# Altium integrated library Renesas Microprocessor SuperH.IntLib: 433 symbols (part 7 of 62)
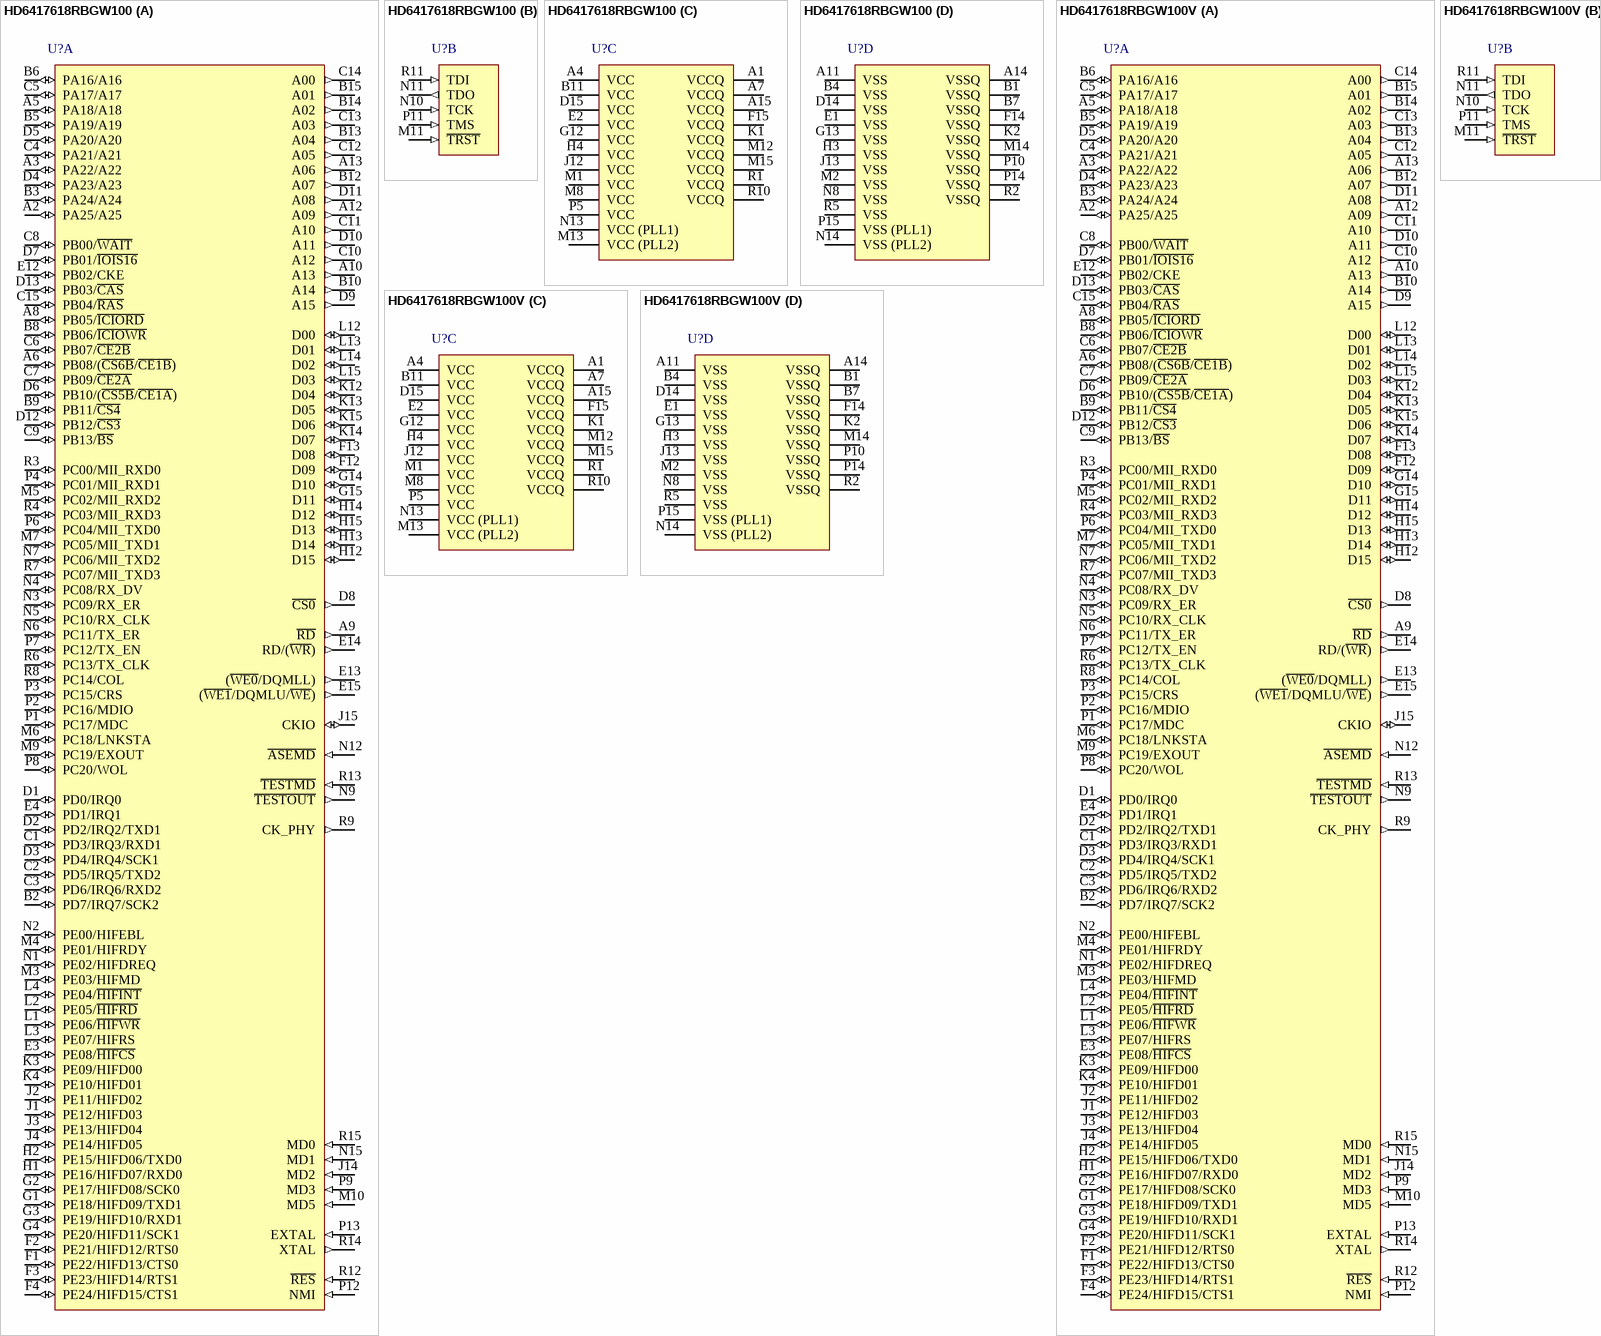
[diagram p382: symbols HD6417618RBGW100 to HD6417618RBGW100V]

## HD6417618RBGW100
designator U?
32-Bit RISC Microcomputer, SH-Ether Series, SH-2 core, 100MHz, 4K RAM, PLBG0176GA-A (BP-176) Package, -40 to 85°C; Published: 28-Aug-2009; DatasheetVersion: Rev.6.00, Jun-2007; PackageVersion: Apr-2006; PackageReference: PLBG0176GA-A; Publisher: Altium Limited; PackageDescription: 176-Ball Plastic Low Profile Fine-Pitch BGA, 13 x 13 mm Body, 0.8 mm Pitch; Code_JEITA: P-LFBGA176-13x13-0.80; ComponentLink1Description: Manufacturer Link; ComponentLink1URL: http://www.renesas.com/fmwk.jsp?cnt=sh7618_root.jsp&fp=/products/mpumcu/superh_family/shether_series/sh7618_group/; ComponentLink2Description: Datasheet; ComponentLink2URL: http://documentation.renesas.com/eng/products/mpumcu/rej09b0131_sh7618.pdf; ComponentLink3Description: Packaging Specification; ComponentLink3URL: http://sg.renesas.com/media/products/common_info/package/pdf/ic/code/plbg0176ga_a.pdf
footprint PLBG0176GA-A (BGA, 176-Leads, Body 13x13mm, Pitch 0.8mm)
part A pins: A2 PA25/A25 (io), A3 PA22/A22 (io), A5 PA18/A18 (io), A6 PB08/(~{CS6B}/~{CE1B}) (io), A8 PB05/~{ICIORD} (io), A9 ~{RD} (out), A10 A13 (out), A12 A09 (out), A13 A06 (out), B2 PD7/IRQ7/SCK2 (io), B3 PA24/A24 (io), B5 PA19/A19 (io), B6 PA16/A16 (io), B8 PB06/~{ICIOWR} (io), B9 PB11/~{CS4} (io), B10 A14 (out), B12 A07 (out), B13 A04 (out), B14 A02 (out), B15 A01 (out), C1 PD3/IRQ3/RXD1 (io), C2 PD5/IRQ5/TXD2 (io), C3 PD6/IRQ6/RXD2 (io), C4 PA21/A21 (io), C5 PA17/A17 (io), C6 PB07/~{CE2B} (io), C7 PB09/~{CE2A} (io), C8 PB00/~{WAIT} (io), C9 PB13/~{BS} (io), C10 A12 (out), C11 A10 (out), C12 A05 (out), C13 A03 (out), C14 A00 (out), C15 PB04/~{RAS} (io), D1 PD0/IRQ0 (io), D2 PD2/IRQ2/TXD1 (io), D3 PD4/IRQ4/SCK1 (io), D4 PA23/A23 (io), D5 PA20/A20 (io), D6 PB10/(~{CS5B}/~{CE1A}) (io), D7 PB01/~{IOIS16} (io), D8 ~{CS0} (out), D9 A15 (out), D10 A11 (out), D11 A08 (out), D12 PB12/~{CS3} (io), D13 PB03/~{CAS} (io), E3 PE08/~{HIFCS} (io), E4 PD1/IRQ1 (io), E12 PB02/CKE (io), E13 (~{WE0}/DQMLL) (out), E14 RD/(~{WR}) (out), E15 (~{WE1}/DQMLU/~{WE}) (out), F1 PE22/HIFD13/CTS0 (io), F2 PE21/HIFD12/RTS0 (io), F3 PE23/HIFD14/RTS1 (io), F4 PE24/HIFD15/CTS1 (io), F12 D09 (io), F13 D08 (io), G1 PE18/HIFD09/TXD1 (io), G2 PE17/HIFD08/SCK0 (io), G3 PE19/HIFD10/RXD1 (io), G4 PE20/HIFD11/SCK1 (io), G14 D10 (io), G15 D11 (io), H1 PE16/HIFD07/RXD0 (io), H2 PE15/HIFD06/TXD0 (io), H12 D15 (io), H13 D14 (io), H14 D12 (io), H15 D13 (io), J1 PE12/HIFD03 (io), J2 PE11/HIFD02 (io), J3 PE13/HIFD04 (io), J4 PE14/HIFD05 (io), J14 MD2 (in), J15 CKIO (io), K3 PE09/HIFD00 (io), K4 PE10/HIFD01 (io), K12 D04 (io), K13 D05 (io), K14 D07 (io), K15 D06 (io), L1 PE06/~{HIFWR} (io), L2 PE05/~{HIFRD} (io), L3 PE07/HIFRS (io), L4 PE04/~{HIFINT} (io), L12 D00 (io), L13 D01 (io), L14 D02 (io), L15 D03 (io), M3 PE03/HIFMD (io), M4 PE01/HIFRDY (io), M5 PC02/MII_RXD2 (io), M6 PC18/LNKSTA (io), M7 PC05/MII_TXD1 (io), M9 PC19/EXOUT (io), M10 MD5 (in), N1 PE02/HIFDREQ (io), N2 PE00/HIFEBL (io), N3 PC09/RX_ER (io), N4 PC08/RX_DV (io), N5 PC10/RX_CLK (io), N6 PC11/TX_ER (io), N7 PC06/MII_TXD2 (io), N9 ~{TESTOUT} (out), N12 ~{ASEMD} (in), N15 MD1 (in), P1 PC17/MDC (io), P2 PC16/MDIO (io), P3 PC15/CRS (io), P4 PC01/MII_RXD1 (io), P6 PC04/MII_TXD0 (io), P7 PC12/TX_EN (io), P8 PC20/WOL (io), P9 MD3 (in), P12 NMI (in), P13 EXTAL (in), R3 PC00/MII_RXD0 (io), R4 PC03/MII_RXD3 (io), R6 PC13/TX_CLK (io), R7 PC07/MII_TXD3 (io), R8 PC14/COL (io), R9 CK_PHY (out), R12 ~{RES} (in), R13 ~{TESTMD} (in), R14 XTAL (out), R15 MD0 (in)
part B pins: M11 ~{TRST} (in), N10 TCK (in), N11 TDO (out), P11 TMS (in), R11 TDI (in)
part C pins: A1 VCCQ (power), A4 VCC (power), A7 VCCQ (power), A15 VCCQ (power), B11 VCC (power), D15 VCC (power), E2 VCC (power), F15 VCCQ (power), G12 VCC (power), H4 VCC (power), J12 VCC (power), K1 VCCQ (power), M1 VCC (power), M8 VCC (power), M12 VCCQ (power), M13 VCC (PLL2) (power), M15 VCCQ (power), N13 VCC (PLL1) (power), P5 VCC (power), R1 VCCQ (power), R10 VCCQ (power)
part D pins: A11 VSS (power), A14 VSSQ (power), B1 VSSQ (power), B4 VSS (power), B7 VSSQ (power), D14 VSS (power), E1 VSS (power), F14 VSSQ (power), G13 VSS (power), H3 VSS (power), J13 VSS (power), K2 VSSQ (power), M2 VSS (power), M14 VSSQ (power), N8 VSS (power), N14 VSS (PLL2) (power), P10 VSSQ (power), P14 VSSQ (power), P15 VSS (PLL1) (power), R2 VSSQ (power), R5 VSS (power)

## HD6417618RBGW100V
designator U?
32-Bit RISC Microcomputer, SH-Ether Series, SH-2 core, 100MHz, 4K RAM, PLBG0176GA-A (BP-176V) Package, -40 to 85°C; Published: 28-Aug-2009; DatasheetVersion: Rev.6.00, Jun-2007; PackageVersion: Apr-2006; PackageReference: PLBG0176GA-A; Publisher: Altium Limited; PackageDescription: 176-Ball Plastic Low Profile Fine-Pitch BGA, 13 x 13 mm Body, 0.8 mm Pitch; Code_JEITA: P-LFBGA176-13x13-0.80; ComponentLink1Description: Manufacturer Link; ComponentLink1URL: http://www.renesas.com/fmwk.jsp?cnt=sh7618_root.jsp&fp=/products/mpumcu/superh_family/shether_series/sh7618_group/; ComponentLink2Description: Datasheet; ComponentLink2URL: http://documentation.renesas.com/eng/products/mpumcu/rej09b0131_sh7618.pdf; ComponentLink3Description: Packaging Specification; ComponentLink3URL: http://sg.renesas.com/media/products/common_info/package/pdf/ic/code/plbg0176ga_a.pdf
footprint PLBG0176GA-A (BGA, 176-Leads, Body 13x13mm, Pitch 0.8mm)
part A pins: A2 PA25/A25 (io), A3 PA22/A22 (io), A5 PA18/A18 (io), A6 PB08/(~{CS6B}/~{CE1B}) (io), A8 PB05/~{ICIORD} (io), A9 ~{RD} (out), A10 A13 (out), A12 A09 (out), A13 A06 (out), B2 PD7/IRQ7/SCK2 (io), B3 PA24/A24 (io), B5 PA19/A19 (io), B6 PA16/A16 (io), B8 PB06/~{ICIOWR} (io), B9 PB11/~{CS4} (io), B10 A14 (out), B12 A07 (out), B13 A04 (out), B14 A02 (out), B15 A01 (out), C1 PD3/IRQ3/RXD1 (io), C2 PD5/IRQ5/TXD2 (io), C3 PD6/IRQ6/RXD2 (io), C4 PA21/A21 (io), C5 PA17/A17 (io), C6 PB07/~{CE2B} (io), C7 PB09/~{CE2A} (io), C8 PB00/~{WAIT} (io), C9 PB13/~{BS} (io), C10 A12 (out), C11 A10 (out), C12 A05 (out), C13 A03 (out), C14 A00 (out), C15 PB04/~{RAS} (io), D1 PD0/IRQ0 (io), D2 PD2/IRQ2/TXD1 (io), D3 PD4/IRQ4/SCK1 (io), D4 PA23/A23 (io), D5 PA20/A20 (io), D6 PB10/(~{CS5B}/~{CE1A}) (io), D7 PB01/~{IOIS16} (io), D8 ~{CS0} (out), D9 A15 (out), D10 A11 (out), D11 A08 (out), D12 PB12/~{CS3} (io), D13 PB03/~{CAS} (io), E3 PE08/~{HIFCS} (io), E4 PD1/IRQ1 (io), E12 PB02/CKE (io), E13 (~{WE0}/DQMLL) (out), E14 RD/(~{WR}) (out), E15 (~{WE1}/DQMLU/~{WE}) (out), F1 PE22/HIFD13/CTS0 (io), F2 PE21/HIFD12/RTS0 (io), F3 PE23/HIFD14/RTS1 (io), F4 PE24/HIFD15/CTS1 (io), F12 D09 (io), F13 D08 (io), G1 PE18/HIFD09/TXD1 (io), G2 PE17/HIFD08/SCK0 (io), G3 PE19/HIFD10/RXD1 (io), G4 PE20/HIFD11/SCK1 (io), G14 D10 (io), G15 D11 (io), H1 PE16/HIFD07/RXD0 (io), H2 PE15/HIFD06/TXD0 (io), H12 D15 (io), H13 D14 (io), H14 D12 (io), H15 D13 (io), J1 PE12/HIFD03 (io), J2 PE11/HIFD02 (io), J3 PE13/HIFD04 (io), J4 PE14/HIFD05 (io), J14 MD2 (in), J15 CKIO (io), K3 PE09/HIFD00 (io), K4 PE10/HIFD01 (io), K12 D04 (io), K13 D05 (io), K14 D07 (io), K15 D06 (io), L1 PE06/~{HIFWR} (io), L2 PE05/~{HIFRD} (io), L3 PE07/HIFRS (io), L4 PE04/~{HIFINT} (io), L12 D00 (io), L13 D01 (io), L14 D02 (io), L15 D03 (io), M3 PE03/HIFMD (io), M4 PE01/HIFRDY (io), M5 PC02/MII_RXD2 (io), M6 PC18/LNKSTA (io), M7 PC05/MII_TXD1 (io), M9 PC19/EXOUT (io), M10 MD5 (in), N1 PE02/HIFDREQ (io), N2 PE00/HIFEBL (io), N3 PC09/RX_ER (io), N4 PC08/RX_DV (io), N5 PC10/RX_CLK (io), N6 PC11/TX_ER (io), N7 PC06/MII_TXD2 (io), N9 ~{TESTOUT} (out), N12 ~{ASEMD} (in), N15 MD1 (in), P1 PC17/MDC (io), P2 PC16/MDIO (io), P3 PC15/CRS (io), P4 PC01/MII_RXD1 (io), P6 PC04/MII_TXD0 (io), P7 PC12/TX_EN (io), P8 PC20/WOL (io), P9 MD3 (in), P12 NMI (in), P13 EXTAL (in), R3 PC00/MII_RXD0 (io), R4 PC03/MII_RXD3 (io), R6 PC13/TX_CLK (io), R7 PC07/MII_TXD3 (io), R8 PC14/COL (io), R9 CK_PHY (out), R12 ~{RES} (in), R13 ~{TESTMD} (in), R14 XTAL (out), R15 MD0 (in)
part B pins: M11 ~{TRST} (in), N10 TCK (in), N11 TDO (out), P11 TMS (in), R11 TDI (in)
part C pins: A1 VCCQ (power), A4 VCC (power), A7 VCCQ (power), A15 VCCQ (power), B11 VCC (power), D15 VCC (power), E2 VCC (power), F15 VCCQ (power), G12 VCC (power), H4 VCC (power), J12 VCC (power), K1 VCCQ (power), M1 VCC (power), M8 VCC (power), M12 VCCQ (power), M13 VCC (PLL2) (power), M15 VCCQ (power), N13 VCC (PLL1) (power), P5 VCC (power), R1 VCCQ (power), R10 VCCQ (power)
part D pins: A11 VSS (power), A14 VSSQ (power), B1 VSSQ (power), B4 VSS (power), B7 VSSQ (power), D14 VSS (power), E1 VSS (power), F14 VSSQ (power), G13 VSS (power), H3 VSS (power), J13 VSS (power), K2 VSSQ (power), M2 VSS (power), M14 VSSQ (power), N8 VSS (power), N14 VSS (PLL2) (power), P10 VSSQ (power), P14 VSSQ (power), P15 VSS (PLL1) (power), R2 VSSQ (power), R5 VSS (power)

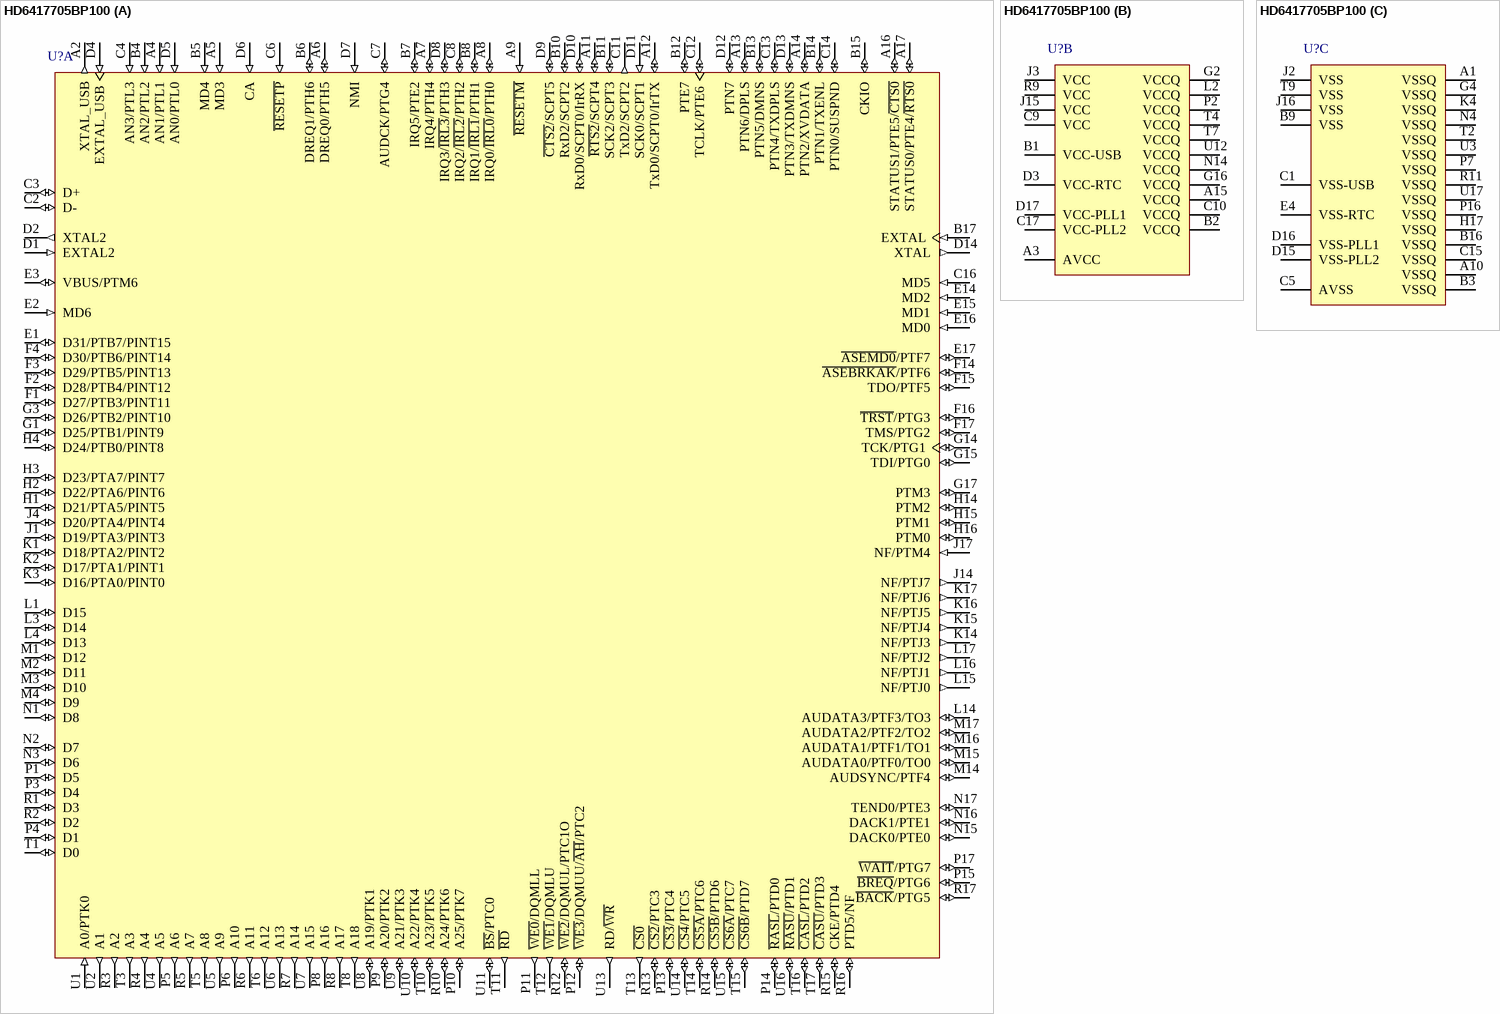
[diagram p26: symbol HD6417705BP100]